# EAGLE library part 853-XX-100-20-001000 (library BeaverBoard)
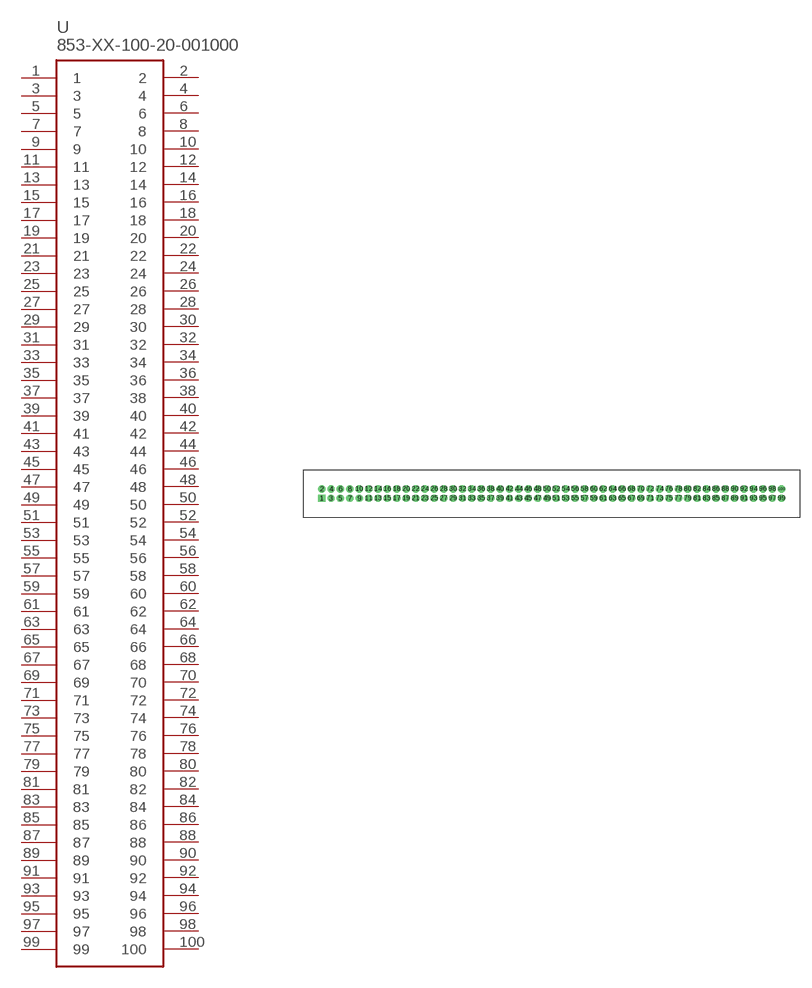
[diagram p1: symbol with the pads of 853-XX-100-20-001000; footprint 853-XX-100-20-001000]

Designator prefix -

## 853-XX-100-20-001000  [853-XX-100-20-001000]
1  1
2  2
3  3
4  4
5  5
6  6
7  7
8  8
9  9
10  10
11  11
12  12
13  13
14  14
15  15
16  16
17  17
18  18
19  19
20  20
21  21
22  22
23  23
24  24
25  25
26  26
27  27
28  28
29  29
30  30
31  31
32  32
33  33
34  34
35  35
36  36
37  37
38  38
39  39
40  40
41  41
42  42
43  43
44  44
45  45
46  46
47  47
48  48
49  49
50  50
51  51
52  52
53  53
54  54
55  55
56  56
57  57
58  58
59  59
60  60
61  61
62  62
63  63
64  64
65  65
66  66
67  67
68  68
69  69
70  70
71  71
72  72
73  73
74  74
75  75
76  76
77  77
78  78
79  79
80  80
81  81
82  82
83  83
84  84
85  85
86  86
87  87
88  88
89  89
90  90
91  91
92  92
93  93
94  94
95  95
96  96
97  97
98  98
99  99
100  100

## Footprint 853-XX-100-20-001000 (pad centres in mm)
Double Row Right Angle Socket
drill 0.5 square: 1 0,0
drill 0.5 round: 2 0,1.27; 3 1.27,0; 4 1.27,1.27; 5 2.54,0; 6 2.54,1.27; 7 3.81,0; 8 3.81,1.27; 9 5.08,0; 10 5.08,1.27; 11 6.35,0; 12 6.35,1.27; 13 7.62,0; 14 7.62,1.27; 15 8.89,0; 16 8.89,1.27; 17 10.16,0; 18 10.16,1.27; 19 11.43,0; 20 11.43,1.27; 21 12.7,0; 22 12.7,1.27; 23 13.97,0; 24 13.97,1.27; 25 15.24,0; 26 15.24,1.27; 27 16.51,0; 28 16.51,1.27; 29 17.78,0; 30 17.78,1.27; 31 19.05,0; 32 19.05,1.27; 33 20.32,0; 34 20.32,1.27; 35 21.59,0; 36 21.59,1.27; 37 22.86,0; 38 22.86,1.27; 39 24.13,0; 40 24.13,1.27; 41 25.4,0; 42 25.4,1.27; 43 26.67,0; 44 26.67,1.27; 45 27.94,0; 46 27.94,1.27; 47 29.21,0; 48 29.21,1.27; 49 30.48,0; 50 30.48,1.27; 51 31.75,0; 52 31.75,1.27; 53 33.02,0; 54 33.02,1.27; 55 34.29,0; 56 34.29,1.27; 57 35.56,0; 58 35.56,1.27; 59 36.83,0; 60 36.83,1.27; 61 38.1,0; 62 38.1,1.27; 63 39.37,0; 64 39.37,1.27; 65 40.64,0; 66 40.64,1.27; 67 41.91,0; 68 41.91,1.27; 69 43.18,0; 70 43.18,1.27; 71 44.45,0; 72 44.45,1.27; 73 45.72,0; 74 45.72,1.27; 75 46.99,0; 76 46.99,1.27; 77 48.26,0; 78 48.26,1.27; 79 49.53,0; 80 49.53,1.27; 81 50.8,0; 82 50.8,1.27; 83 52.07,0; 84 52.07,1.27; 85 53.34,0; 86 53.34,1.27; 87 54.61,0; 88 54.61,1.27; 89 55.88,0; 90 55.88,1.27; 91 57.15,0; 92 57.15,1.27; 93 58.42,0; 94 58.42,1.27; 95 59.69,0; 96 59.69,1.27; 97 60.96,0; 98 60.96,1.27; 99 62.23,0; 100 62.23,1.27